# EAGLE library part 12226-1150-00FR (library 3M_By_element14_Batch_1)
CONN SDR 26POS VERT RECEPT
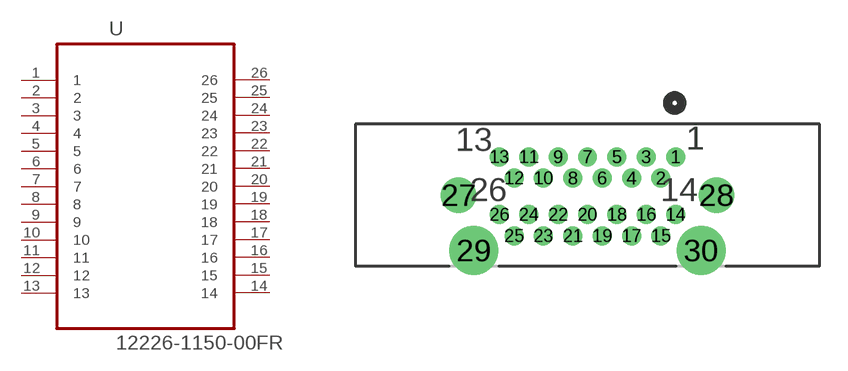
[diagram p14: symbol with the pads of 3M_12226-1150-00FR; footprint 3M_12226-1150-00FR]

Designator prefix U

## 12226-1150-00FR (MPN: 12226-1150-00FR; OC_FARNELL: 1321037; OC_NEWARK: 88K3129; PACKAGE: SDR 26POS VERT RECEPT; SUPPLIER: 3M)  [3M_12226-1150-00FR]
1  1  pas
2  2  pas
3  3  pas
4  4  pas
5  5  pas
6  6  pas
7  7  pas
8  8  pas
9  9  pas
10  10  pas
11  11  pas
12  12  pas
13  13  pas
14  14  pas
15  15  pas
16  16  pas
17  17  pas
18  18  pas
19  19  pas
20  20  pas
21  21  pas
22  22  pas
23  23  pas
24  24  pas
25  25  pas
26  26  pas

## Footprint 3M_12226-1150-00FR (pad centres in mm)
drill 0.508: 1 9.449,4.242; 2 8.661,3.099; 3 7.874,4.242; 4 7.087,3.099; 5 6.299,4.242; 6 5.512,3.099; 7 4.724,4.242; 8 3.937,3.099; 9 3.15,4.242; 10 2.362,3.099; 11 1.575,4.242; 12 0.787,3.099; 13 0,4.242; 14 9.449,1.143; 15 8.661,0; 16 7.874,1.143; 17 7.087,0; 18 6.299,1.143; 19 5.512,0; 20 4.724,1.143; 21 3.937,0; 22 3.15,1.143; 23 2.362,0; 24 1.575,1.143; 25 0.787,0; 26 0,1.143
drill 1.27: 27 -2.184,2.184; 28 11.633,2.184
drill 1.753: 29 -1.372,-0.787; 30 10.82,-0.787